# Altium footprint library PcbLib1.PcbLib: 1 footprints
Each footprint in its own frame and in the unit in brackets; x right, y up, seen from the top. Pads: shape width x height; smd on the part's side, far side on the other; paste and mask are expansions set on the pad; w line width, h text height; cw(c..) or ccw(c..) is an arc to the next point about the centre after c.
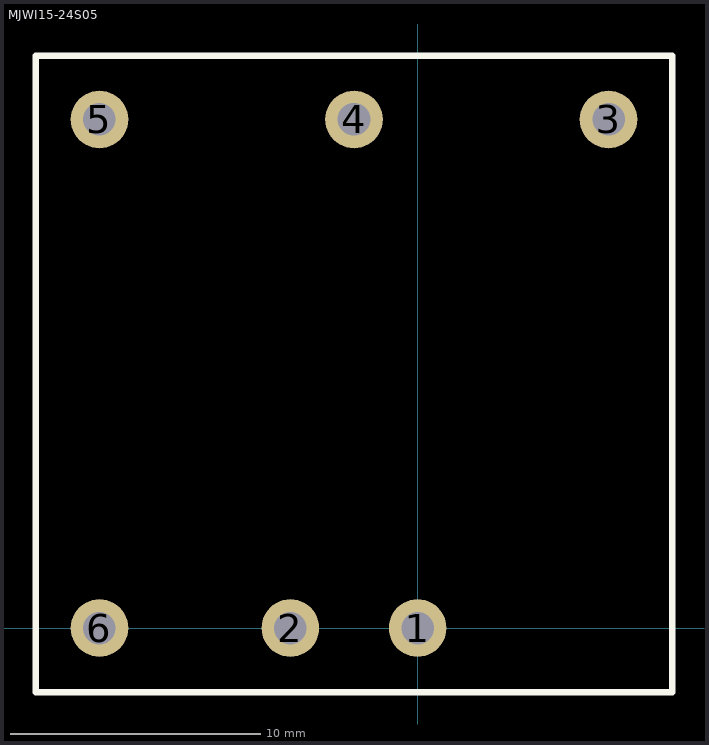
[diagram p0: the footprint, top view; thin cyan lines are the x and y axes]

## MJWI15-24S05 [mm]
pads (6):
  round 2.3 hole 1.3: 1(0,0) 2(-5.08,0) 3(7.62,20.3) 4(-2.54,20.3) 5(-12.7,20.3) 6(-12.7,0)
Top Overlay:
  lines w0.254: -15.24,-2.56 10.16,-2.56 10.16,22.84 -15.24,22.84 -15.24,-2.56